# Altium schematic symbol library LEDMatrix.SchLib: 1 symbol
Pins are listed as number, name and electrical type; pins without a type are passive.

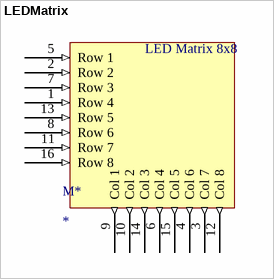
[diagram p0: symbol LEDMatrix]

## LEDMatrix
designator M*
LED Matrix 8x8 white
footprint LEDMATRIX (LED Matrix 8x8 weiss (MUFF))
pins: 1 Row 4 (in), 2 Row 2 (in), 3 Col 7 (out), 4 Col 6 (out), 5 Row 1 (in), 6 Col 4 (out), 7 Row 3 (in), 8 Row 6 (in), 9 Col 1 (out), 10 Col 2 (out), 11 Row 7 (in), 12 Col 8 (out), 13 Row 5 (in), 14 Col 3 (out), 15 Col 5 (out), 16 Row 8 (in)
text: LED Matrix 8x8